# EAGLE library part MSD-11-A (library SamacSys_Parts)
Micro SD Card Connector, 8 Positions, Connector and Ejector, Push In, Auto Eject Out, Surface Mount, 1.85 mm Heaight Above Board, Gold Flash Source: Datasheet <https://www.sameskydevices.com/product/resource/msd-11-a.pdf>
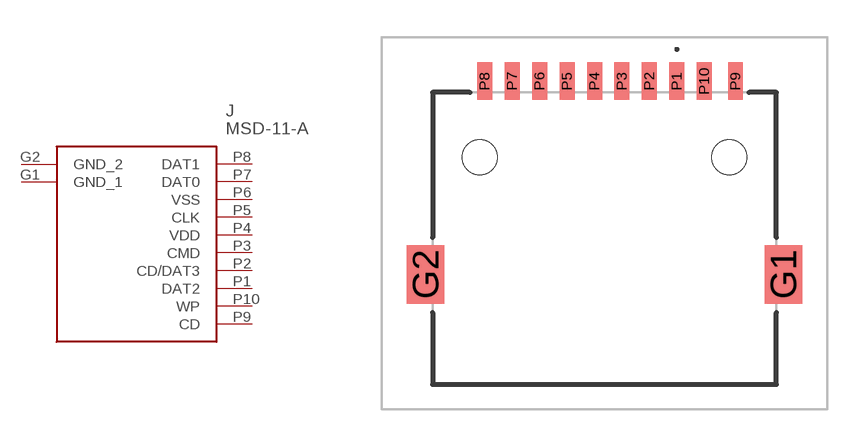
[diagram p1: symbol with the pads of MSD11A; footprint MSD11A]

Designator prefix J

## MSD-11-A (DESCRIPTION: Micro SD Card Connector, 8 Positions, Connector and Ejector, Push In, Auto Eject Out, Surface Mount, 1.85 mm Heaight Above Board, Gold Flash; HEIGHT: 2.05mm; MANUFACTURER_NAME: Same Sky; MANUFACTURER_PART_NUMBER: MSD-11-A; MOUSER_PART_NUMBER: 179-MSD-11-A; MOUSER_PRICE-STOCK: https://www.mouser.co.uk/ProductDetail/Same-Sky/MSD-11-A?qs=Z%252BL2brAPG1Ik3z2e2QtVog%3D%3D)  [MSD11A]
G1  GND_1
G2  GND_2
P1  DAT2
P2  CD/DAT3
P3  CMD
P4  VDD
P5  CLK
P6  VSS
P7  DAT0
P8  DAT1
P9  CD
P10  WP

## Footprint MSD11A (pad centres in mm)
MSD-11-A-2
smd 1.5 x 2.34: G1 7.17,-1.675; G2 -7.17,-1.675
smd 0.6 x 1.5: P1 2.9,6.075; P2 1.8,6.075; P3 0.7,6.075; P4 -0.4,6.075; P5 -1.5,6.075; P6 -2.6,6.075; P7 -3.7,6.075; P8 -4.8,6.075; P9 5.25,6.075; P10 4,6.075
hole 1.4 at 5,3.025
hole 1.4 at -5,3.025